# Altium footprint library Leadless.PcbLib: 78 footprints (part 1 of 5)
Each footprint in its own frame and in the unit in brackets; x right, y up, seen from the top. Pads: shape width x height; smd on the part's side, far side on the other; paste and mask are expansions set on the pad; w line width, h text height; cw(c..) or ccw(c..) is an arc to the next point about the centre after c.
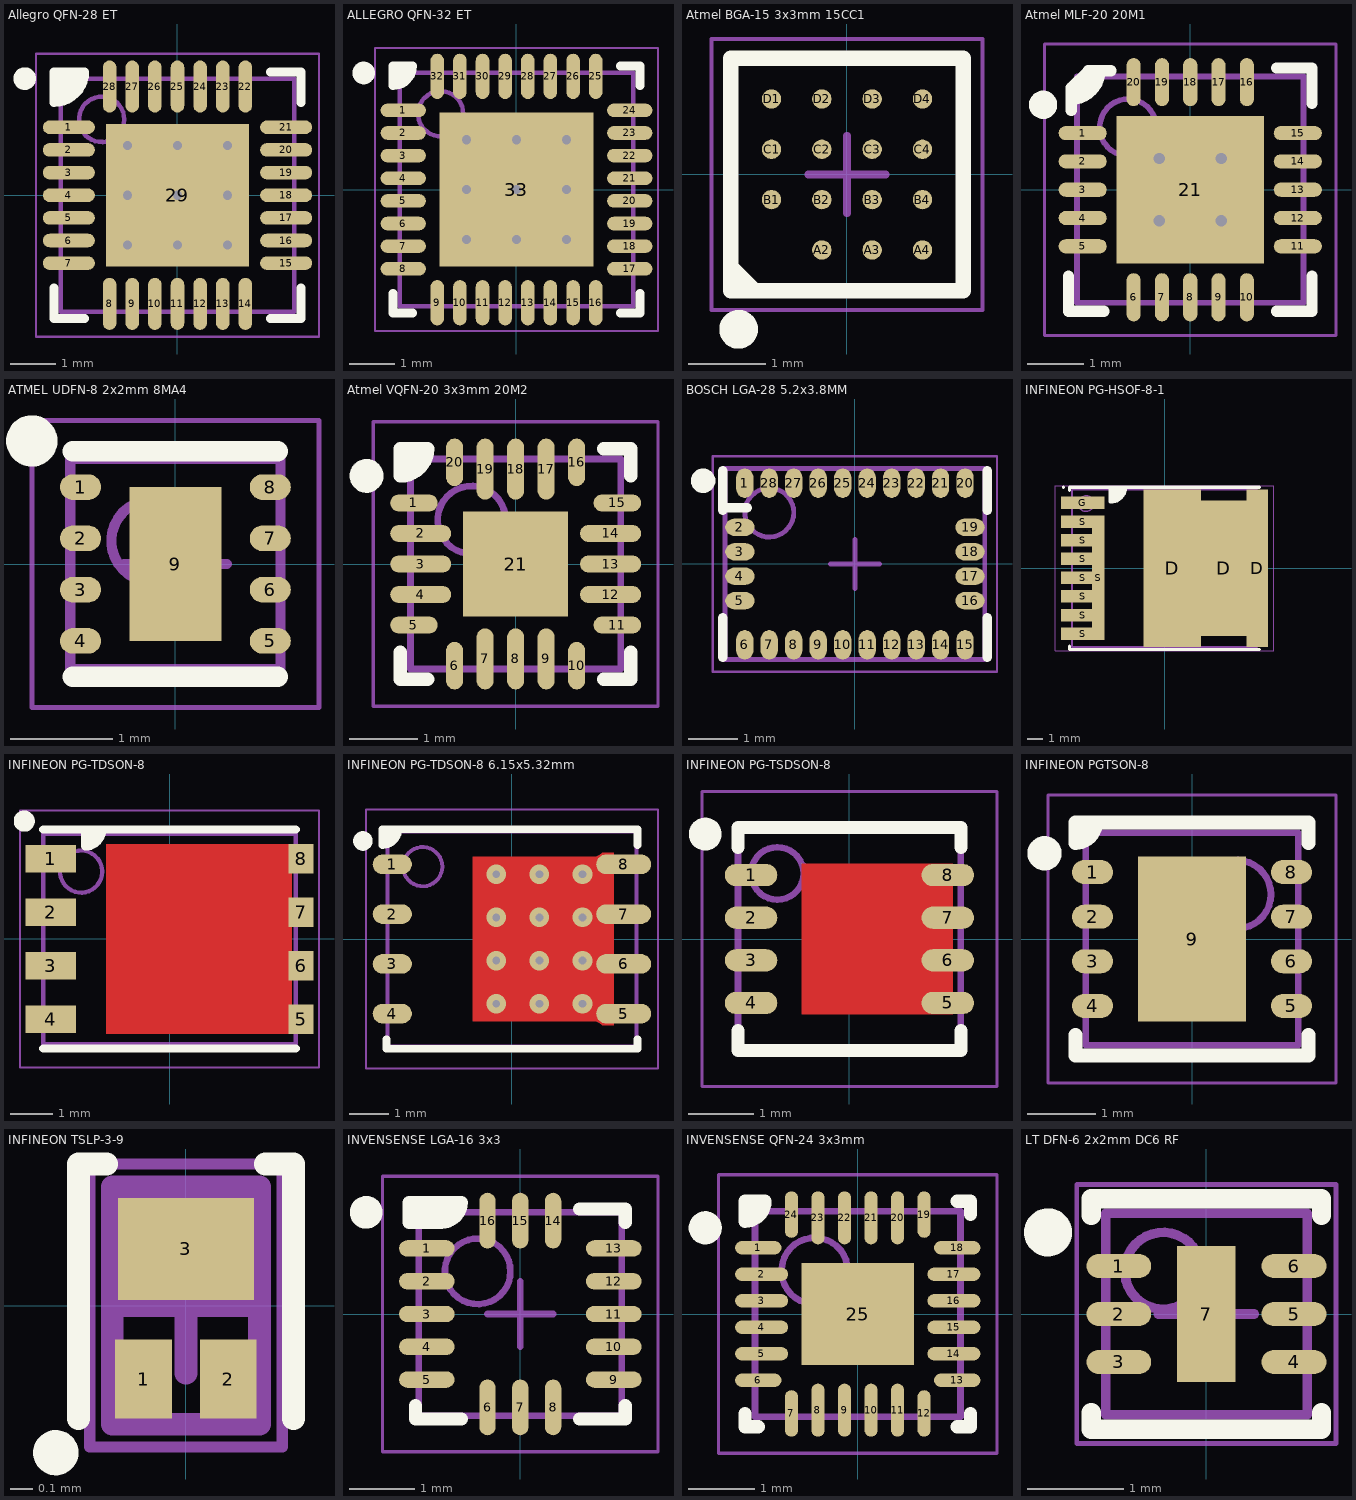
[diagram p0: the footprints below, top view; thin cyan lines are the x and y axes]

## Allegro QFN-28 ET [mm] "QFN, 28-Leads, Body 5.00x5.00mm, Pitch 0.50mm, Thermal Pad 3.15x3.15mm, IPC Medium Density"
height 1
pads (29):
  oval 1.15x0.3 smd: 1(-2.4,1.5) 2(-2.4,1) 3(-2.4,0.5) 4(-2.4,0) 5(-2.4,-0.5) 6(-2.4,-1) 7(-2.4,-1.5) 15(2.4,-1.5) 16(2.4,-1) 17(2.4,-0.5) 18(2.4,0) 19(2.4,0.5) 20(2.4,1) 21(2.4,1.5)
  oval 0.3x1.15 smd: 8(-1.5,-2.4) 9(-1,-2.4) 10(-0.5,-2.4) 11(0,-2.4) 12(0.5,-2.4) 13(1,-2.4) 14(1.5,-2.4) 22(1.5,2.4) 23(1,2.4) 24(0.5,2.4) 25(0,2.4) 26(-0.5,2.4) 27(-1,2.4) 28(-1.5,2.4)
  rect 3.15x3.15 smd: 29(0,0)
via -1.1,1.1 diameter 0.5 hole 0.2
via 0,1.1 diameter 0.5 hole 0.2
via 1.1,1.1 diameter 0.5 hole 0.2
via -1.1,0 diameter 0.5 hole 0.2
via 0,0 diameter 0.5 hole 0.2
via 1.1,0 diameter 0.5 hole 0.2
via -1.1,-1.1 diameter 0.5 hole 0.2
via 0,-1.1 diameter 0.5 hole 0.2
via 1.1,-1.1 diameter 0.5 hole 0.2
Top Overlay:
  circle w0.25: c-3.375,2.575 r0.125
  region: -2.725,2.725 -2.05,2.725 -2.05,2.659 -2.076,2.528 -2.127,2.405 -2.201,2.295 -2.295,2.201 -2.405,2.127 -2.528,2.076 -2.659,2.05 -2.725,2.05
  lines w0.2: -2.725,-2.05 -2.725,-2.725 -2.05,-2.725 ; 2.05,-2.725 2.725,-2.725 2.725,-2.05 ; 2.05,2.725 2.725,2.725 2.725,2.05 ; -2.725,2.05 ccw(c-2.725,2.725) -2.05,2.725 -2.725,2.725 -2.725,2.05
Mechanical 13:
  circle w0.1: c-1.675,1.675 r0.5
  lines w0.1: -2.575,-2.575 -2.575,2.575 2.575,2.575 2.575,-2.575 -2.575,-2.575
Mechanical 15:
  lines w0.05: -3.125,-3.125 -3.125,3.125 3.125,3.125 3.125,-3.125 -3.125,-3.125
  lines w0.1: -0.5,0 0.5,0 ; 0,-0.5 0,0.5
3D body: height 1, standoff 0.01, extent -2.575,-2.575 2.575,2.575

## ALLEGRO QFN-32 ET [mm] "QFN, 32-Leads, Body 5.00x5.00mm, Pitch 0.50mm, Thermal Pad 3.40x3.40mm, IPC Medium Density"
height 1
pads (33):
  oval 1x0.3 smd: 1(-2.5,1.75) 2(-2.5,1.25) 3(-2.5,0.75) 4(-2.5,0.25) 5(-2.5,-0.25) 6(-2.5,-0.75) 7(-2.5,-1.25) 8(-2.5,-1.75) 17(2.5,-1.75) 18(2.5,-1.25) 19(2.5,-0.75) 20(2.5,-0.25) 21(2.5,0.25) 22(2.5,0.75) 23(2.5,1.25) 24(2.5,1.75)
  oval 0.3x1 smd: 9(-1.75,-2.5) 10(-1.25,-2.5) 11(-0.75,-2.5) 12(-0.25,-2.5) 13(0.25,-2.5) 14(0.75,-2.5) 15(1.25,-2.5) 16(1.75,-2.5) 25(1.75,2.5) 26(1.25,2.5) 27(0.75,2.5) 28(0.25,2.5) 29(-0.25,2.5) 30(-0.75,2.5) 31(-1.25,2.5) 32(-1.75,2.5)
  rect 3.4x3.4 smd: 33(0,0)
via -1.1,1.1 diameter 0.5 hole 0.2
via 0,1.1 diameter 0.5 hole 0.2
via 1.1,1.1 diameter 0.5 hole 0.2
via -1.1,0 diameter 0.5 hole 0.2
via 0,0 diameter 0.5 hole 0.2
via 1.1,0 diameter 0.5 hole 0.2
via -1.1,-1.1 diameter 0.5 hole 0.2
via 0,-1.1 diameter 0.5 hole 0.2
via 1.1,-1.1 diameter 0.5 hole 0.2
Top Overlay:
  circle w0.25: c-3.375,2.575 r0.125
  region: -2.725,2.725 -2.3,2.725 -2.3,2.64 -2.365,2.484 -2.484,2.365 -2.64,2.3 -2.725,2.3
  lines w0.2: -2.725,-2.3 -2.725,-2.725 -2.3,-2.725 ; 2.3,-2.725 2.725,-2.725 2.725,-2.3 ; 2.3,2.725 2.725,2.725 2.725,2.3 ; -2.725,2.3 ccw(c-2.725,2.725) -2.3,2.725 -2.725,2.725 -2.725,2.3
Mechanical 13:
  circle w0.1: c-1.675,1.675 r0.5
  lines w0.1: -2.575,-2.575 -2.575,2.575 2.575,2.575 2.575,-2.575 -2.575,-2.575
Mechanical 15:
  lines w0.05: -3.125,-3.125 -3.125,3.125 3.125,3.125 3.125,-3.125 -3.125,-3.125
  lines w0.1: -0.5,0 0.5,0 ; 0,-0.5 0,0.5
3D body: height 1, standoff 0.01, extent -2.575,-2.575 2.575,2.575

## Atmel BGA-15 3x3mm 15CC1 [mm] "BGA, 15-Leads, Body 3.00x3.00mmx0.60mm, Pitch 0.65mm"
height 0.6
pads (15):
  round 0.25 smd: A2(-0.325,-0.975) A3(0.325,-0.975) A4(0.975,-0.975) B1(-0.975,-0.325) B2(-0.325,-0.325) B3(0.325,-0.325) B4(0.975,-0.325) C1(-0.975,0.325) C2(-0.325,0.325) C3(0.325,0.325) C4(0.975,0.325) D1(-0.975,0.975) D2(-0.325,0.975) D3(0.325,0.975) D4(0.975,0.975)
Top Overlay:
  circle w0.25: c-1.4,-2 r0.125
  region: -1.5,-1.192 -1.192,-1.5 -1.5,-1.5
  lines w0.2: -1.5,-1.192 -1.192,-1.5 ; -1.5,-1.5 -1.5,1.5 1.5,1.5 1.5,-1.5 -1.5,-1.5
Mechanical 13:
  lines w0.1: -1.5,-1.5 -1.5,1.5 1.5,1.5 1.5,-1.5 -1.5,-1.5
Mechanical 15:
  lines w0.05: -1.75,-1.75 -1.75,1.75 1.75,1.75 1.75,-1.75 -1.75,-1.75
  lines w0.1: -0.5,0 0.5,0 ; 0,-0.5 0,0.5
3D body: height 0.6, standoff 0.12, extent -1.5,-1.5 1.5,1.5

## Atmel MLF-20 20M1 [mm] "QFN, 20-Leads, Body 4.00x4.00mm, Pitch 0.50mm, Thermal Pad 2.60x2.60mm, IPC Medium Density"
height 0.8
pads (21):
  oval 0.85x0.25 smd: 1(-1.9,1) 2(-1.9,0.5) 3(-1.9,0) 4(-1.9,-0.5) 5(-1.9,-1) 11(1.9,-1) 12(1.9,-0.5) 13(1.9,0) 14(1.9,0.5) 15(1.9,1)
  oval 0.25x0.85 smd: 6(-1,-1.9) 7(-0.5,-1.9) 8(0,-1.9) 9(0.5,-1.9) 10(1,-1.9) 16(1,1.9) 17(0.5,1.9) 18(0,1.9) 19(-0.5,1.9) 20(-1,1.9)
  rect 2.6x2.6 smd: 21(0,0)
via 0.55,-0.55 diameter 0.5 hole 0.2
via -0.55,-0.55 diameter 0.5 hole 0.2
via 0.55,0.55 diameter 0.5 hole 0.2
via -0.55,0.55 diameter 0.5 hole 0.2
Top Overlay:
  circle w0.25: c-2.6,1.5 r0.125
  region: -1.9,2.1 -1.6,2.1 -1.6,2.001 -1.676,1.817 -1.817,1.676 -2.001,1.6 -2.1,1.6 -2.2,1.6 -2.2,1.8
  lines w0.2: -2.15,-1.525 -2.15,-2.15 -1.525,-2.15 ; -2.1,1.4 -2.1,1.8 -1.8,2.1 -1.4,2.1 ; -2.1,1.6 ccw(c-2.1,2.1) -1.6,2.1 ; 1.525,-2.15 2.15,-2.15 2.15,-1.525 ; 1.525,2.15 2.15,2.15 2.15,1.525
Mechanical 13:
  circle w0.1: c-1.1,1.1 r0.5
  lines w0.1: -2,-2 2,-2 2,2 -2,2 -2,-2
Mechanical 15:
  lines w0.05: -2.575,-2.575 2.575,-2.575 2.575,2.575 -2.575,2.575 -2.575,-2.575
  lines w0.1: -0.5,0 0.5,0 ; 0,-0.5 0,0.5
3D body: height 0.8, standoff 0.01, extent -2,-2 2,2

## ATMEL UDFN-8 2x2mm 8MA4 [mm] "UDFN, 8-Leads, Body 2.00x2.00mm, Pitch 0.50mm, Thermal Pad 0.90x1.50mm, IPC Medium Density"
height 0.6
pads (9):
  oval 0.4x0.25 smd: 1(-0.925,0.75) 2(-0.925,0.25) 3(-0.925,-0.25) 4(-0.925,-0.75) 5(0.925,-0.75) 6(0.925,-0.25) 7(0.925,0.25) 8(0.925,0.75)
  rect 0.9x1.5 smd: 9(0,0)
Top Overlay:
  circle w0.25: c-1.4,1.2 r0.125
  lines w0.2: -1,-1.1 1,-1.1 ; -1,1.1 1,1.1
Mechanical 13:
  circle w0.1: c-0.225,0.225 r0.4
  lines w0.1: -1.025,-1.025 1.025,-1.025 1.025,1.025 -1.025,1.025 -1.025,-1.025
Mechanical 15:
  lines w0.05: -1.4,-1.4 1.4,-1.4 1.4,1.4 -1.4,1.4 -1.4,-1.4
  lines w0.1: -0.5,0 0.5,0 ; 0,-0.5 0,0.5
3D body: height 0.6, standoff 0.01, extent -1.025,-1.025 1.025,1.025

## Atmel VQFN-20 3x3mm 20M2 [mm] "VQFN, 20-Leads, Body 3.00x3.00mm, Pitch 0.45mm, Thermal Pad 1.55x1.55mm, IPC Medium Density"
height 0.85
pads (21):
  oval 0.7x0.25 smd: 1(-1.5,0.9) 5(-1.5,-0.9) 11(1.5,-0.9) 15(1.5,0.9)
  oval 0.9x0.25 smd: 2(-1.4,0.45) 3(-1.4,0) 4(-1.4,-0.45) 12(1.4,-0.45) 13(1.4,0) 14(1.4,0.45)
  oval 0.25x0.7 smd: 6(-0.9,-1.5) 10(0.9,-1.5) 16(0.9,1.5) 20(-0.9,1.5)
  oval 0.25x0.9 smd: 7(-0.45,-1.4) 8(0,-1.4) 9(0.45,-1.4) 17(0.45,1.4) 18(0,1.4) 19(-0.45,1.4)
  rect 1.55x1.55 smd: 21(0,0)
Top Overlay:
  circle w0.25: c-2.2,1.3 r0.125
  region: -1.7,1.7 -1.3,1.7 -1.3,1.5 -1.5,1.3 -1.7,1.3
  lines w0.2: -1.7,-1.3 -1.7,-1.7 -1.3,-1.7 ; 1.3,-1.7 1.7,-1.7 1.7,-1.3 ; 1.3,1.7 1.7,1.7 1.7,1.3 ; -1.7,1.3 ccw(c-1.7,1.7) -1.3,1.7 -1.7,1.7 -1.7,1.3
Mechanical 13:
  circle w0.1: c-0.65,0.65 r0.5
  lines w0.1: -1.55,-1.55 -1.55,1.55 1.55,1.55 1.55,-1.55 -1.55,-1.55
Mechanical 15:
  lines w0.05: -2.1,-2.1 -2.1,2.1 2.1,2.1 2.1,-2.1 -2.1,-2.1
  lines w0.1: -0.5,0 0.5,0 ; 0,-0.5 0,0.5
3D body: height 0.85, standoff 0.01, extent -1.55,-1.55 1.55,1.55

## BOSCH LGA-28 5.2x3.8MM [mm] "LGA, 28-Leads, Body 5.20x3.80mm, Pitch 0.50mm, IPC Medium Density"
height 1.18
pads (28):
  oval 0.35x0.6 smd: 1(-2.25,1.65) 6(-2.25,-1.65) 7(-1.75,-1.65) 8(-1.25,-1.65) 9(-0.75,-1.65) 10(-0.25,-1.65) 11(0.25,-1.65) 12(0.75,-1.65) 13(1.25,-1.65) 14(1.75,-1.65) 15(2.25,-1.65) 20(2.25,1.65) 21(1.75,1.65) 22(1.25,1.65) 23(0.75,1.65) 24(0.25,1.65) 25(-0.25,1.65) 26(-0.75,1.65) 27(-1.25,1.65) 28(-1.75,1.65)
  oval 0.6x0.35 smd: 2(-2.35,0.75) 3(-2.35,0.25) 4(-2.35,-0.25) 5(-2.35,-0.75) 16(2.35,-0.75) 17(2.35,-0.25) 18(2.35,0.25) 19(2.35,0.75)
Top Overlay:
  circle w0.25: c-3.1,1.7 r0.125
  lines w0.2: -2.7,-1.9 -2.7,-1.1 ; -2.7,1.1 -2.7,1.9 ; -2.7,1.15 -2.2,1.15 ; 2.7,-1.9 2.7,-1.1 ; 2.7,1.1 2.7,1.9
Mechanical 13:
  circle w0.1: c-1.75,1.05 r0.5
  lines w0.1: -2.65,-1.95 2.65,-1.95 2.65,1.95 -2.65,1.95 -2.65,-1.95
Mechanical 15:
  lines w0.05: -2.9,-2.2 2.9,-2.2 2.9,2.2 -2.9,2.2 -2.9,-2.2
  lines w0.1: -0.5,0 0.5,0 ; 0,-0.5 0,0.5
3D body: height 1.18, standoff 0.13, extent -2.65,-1.95 2.65,1.95

## INFINEON PG-HSOF-8-1 [mm] "SON, 16-Leads, Body 9.90x11.67mm, Pitch 1.20mm, TIPC Medium Density"
height 2.4
pads (12):
  rect 3.7x10.1 smd: D(0.5,0)
  rect 2.9x8.7 smd: D(3.8,0)
  rect 1.4x10.1 smd: D(5.95,0)
  rect 2.8x0.8 smd: G(-5.25,4.2) S(-5.25,-4.2) S(-5.25,-3) S(-5.25,-1.8) S(-5.25,-0.6) S(-5.25,0.6) S(-5.25,1.8) S(-5.25,3)
  rect 0.8x8 smd mask-10: S(-4.25,-0.6)
Top Overlay:
  circle w0.1: c-6.49,5.2 r0.05
  region: -3.5,5.2 -3.5,4.3 -3.45,4.25 -3,4.25 -2.5,4.75 -2.5,5.2
  lines w0.2: -6.09,-5 -6.09,-5.2 6.09,-5.2 ; -6.09,5 -6.09,5.2 6.09,5.2 ; -3.5,5.2 -3.5,4.25 -3.45,4.25 ccw(c-3.45,5.2) -2.5,5.2
Mechanical 13:
  circle w0.1: c-5.04,4.15 r0.5
  lines w0.1: -5.94,-5.05 -5.94,5.05 5.94,5.05 5.94,-5.05 -5.94,-5.05
Mechanical 15:
  lines w0.05: -7,-5.3 -7,5.3 7,5.3 7,-5.3 -7,-5.3
  lines w0.1: -0.5,0 0.5,0 ; 0,-0.5 0,0.5
3D body "Infineon PG-HSOF-8-1.STEP": height 2.3, standoff 0, extent -5.84,-4.95 5.84,4.95

## INFINEON PG-TDSON-8 [mm] "TDSON, 8-Leads, Body 6x5mm, Pitch 1.27mm, Thermal Pad 1.65x2.38mm, IPC Medium Density"
height 1
pads (8):
  rect 1.2x0.65 smd: 1(-2.825,1.905) 2(-2.825,0.635) 3(-2.825,-0.635) 4(-2.825,-1.905)
  rect 0.6x0.7 smd: 5(3.125,-1.905) 6(3.125,-0.635) 7(3.125,0.635) 8(3.125,1.905)
Top Layer:
  region: -1.5,-2.25 2.9,-2.25 2.9,2.25 -1.5,2.25
Top Overlay:
  circle w0.25: c-3.45,2.8 r0.125
  region: -2,2.6 -1.6,2.6 -1.6,2.52 -1.661,2.373 -1.773,2.261 -1.92,2.2 -2,2.2
  lines w0.2: -3,-2.6 3,-2.6 ; -3,2.6 3,2.6 ; -2,2.6 -2,2.2 ; -1.6,2.6 cw(c-2,2.6) -2,2.2 ; -2,2.2 -2,2.2
Top Paste:
  rectangle: -1.247,1.196 -0.1,1.941
  rectangle: -1.247,-0.895 -0.1,-0.15
  rectangle: -1.247,-1.941 -0.1,-1.196
  rectangle: -1.247,0.15 -0.1,0.895
  region: 1.247,0.895 0.1,0.895 0.1,0.15 1.247,0.15
  region: 1.247,-1.196 0.1,-1.196 0.1,-1.941 1.247,-1.941
  region: 1.247,-0.15 0.1,-0.15 0.1,-0.895 1.247,-0.895
  region: 1.247,1.941 0.1,1.941 0.1,1.196 1.247,1.196
  region: 2.594,1.941 1.447,1.941 1.447,1.196 2.594,1.196
  region: 2.594,-0.15 1.447,-0.15 1.447,-0.895 2.594,-0.895
  region: 2.594,-1.196 1.447,-1.196 1.447,-1.941 2.594,-1.941
  region: 2.594,0.895 1.447,0.895 1.447,0.15 2.594,0.15
Mechanical 13:
  circle w0.1: c-2.1,1.6 r0.5
  lines w0.1: -3,-2.5 3,-2.5 3,2.5 -3,2.5 -3,-2.5
Mechanical 15:
  lines w0.05: -3.55,-3.05 3.55,-3.05 3.55,3.05 -3.55,3.05 -3.55,-3.05
  lines w0.1: -0.5,0 0.5,0 ; 0,-0.5 0,0.5
3D body "PG-TDSON-8.STEP": height 1, standoff 0, extent -3.075,-2.575 3.075,2.575

## INFINEON PG-TDSON-8 6.15x5.32mm [mm] "TDSON, 8-Leads, Body 6.15x5.32mm, Pitch 1.27mm, Thermal Pad 3.60x4.05mm, IPC Medium Density"
height 1.1
pads (8):
  oval 1x0.5 smd: 1(-3.05,1.905) 2(-3.05,0.635) 3(-3.05,-0.635) 4(-3.05,-1.905)
  oval 1.4x0.5 smd: 5(2.85,-1.905) 6(2.85,-0.635) 7(2.85,0.635) 8(2.85,1.905)
via -0.4,1.65 diameter 0.5 hole 0.2
via 0.7,1.65 diameter 0.5 hole 0.2
via 1.8,1.65 diameter 0.5 hole 0.2
via -0.4,0.55 diameter 0.5 hole 0.2
via 0.7,0.55 diameter 0.5 hole 0.2
via 1.8,0.55 diameter 0.5 hole 0.2
via -0.4,-0.55 diameter 0.5 hole 0.2
via 0.7,-0.55 diameter 0.5 hole 0.2
via 1.8,-0.55 diameter 0.5 hole 0.2
via -0.4,-1.65 diameter 0.5 hole 0.2
via 0.7,-1.65 diameter 0.5 hole 0.2
via 1.8,-1.65 diameter 0.5 hole 0.2
Top Layer:
  region: -1,2.1 -1,-2.1 2.059,-2.1 2.092,-2.102 2.158,-2.115 2.22,-2.14 2.275,-2.177 2.3,-2.2 2.6,-2.2 2.6,2.2 2.3,2.2 2.275,2.177 2.22,2.14 2.158,2.115 2.092,2.102 2.059,2.1
Top Overlay:
  circle w0.25: c-3.8,2.5 r0.125
  region: -3.3,2.8 -2.9,2.8 -2.9,2.7 -3.2,2.4 -3.3,2.4
  lines w0.2: -3.2,-2.555 -3.2,-2.8 -0.11,-2.8 3.2,-2.8 3.2,-2.555 ; -2.9,2.8 cw(c-3.3,2.8) -3.3,2.4 ; 3.2,2.4 3.2,2.8 -0.11,2.8 -3.3,2.8 -3.3,2.4 ; -3.3,2.4 -3.3,2.4
Mechanical 13:
  circle w0.1: c-2.275,1.845 r0.5
  lines w0.1: -3.175,-2.745 -3.175,2.745 3.175,2.745 3.175,-2.745 -3.175,-2.745
Mechanical 15:
  lines w0.05: -3.725,-3.3 -3.725,3.3 3.725,3.3 3.725,-3.3 -3.725,-3.3
  lines w0.1: -0.5,0 0.5,0 ; 0,-0.5 0,0.5
3D body: height 1.1, standoff 0.01, extent -3.175,-2.745 3.175,2.745

## INFINEON PG-TSDSON-8 [mm] "PG-TSDSOFN, 8-Leads, Body 3.30x3.30mm, Pitch 0.65mm, Thermal Pad 1.70x1.70mm, IPC Medium Density"
height 1.1
pads (8):
  oval 0.8x0.34 smd: 1(-1.5,0.975) 2(-1.5,0.325) 3(-1.5,-0.325) 4(-1.5,-0.975) 5(1.5,-0.975) 6(1.5,-0.325) 7(1.5,0.325) 8(1.5,0.975)
Top Layer:
  region: -0.725,1.15 1.575,1.15 1.575,-1.15 -0.725,-1.15
Top Overlay:
  circle w0.25: c-2.2,1.6 r0.125
  lines w0.2: -1.7,-1.4 -1.7,-1.7 1.7,-1.7 1.7,-1.4 ; -1.7,1.4 -1.7,1.7 1.7,1.7 1.7,1.4
Mechanical 13:
  lines w0.1: -1.7,-1.7 1.7,-1.7 1.7,1.7 -1.7,1.7 -1.7,-1.7 ; -0.7,1 ccw(c-1.1,1) -0.7,1
Mechanical 15:
  lines w0.05: -2.25,-2.25 2.25,-2.25 2.25,2.25 -2.25,2.25 -2.25,-2.25
  lines w0.1: -0.5,0 0.5,0 ; 0,-0.5 0,0.5
3D body: height 1.1, standoff 0.01, extent -1.7,-1.7 1.7,1.7

## INFINEON PGTSON-8 [mm] "DFN, 8-Leads, Body 3.00x3.00mm, Pitch 0.65mm, Thermal Pad 2.40x1.58mm, IPC Medium Density"
height 1
pads (9):
  oval 0.6x0.35 smd: 1(-1.45,0.975) 2(-1.45,0.325) 3(-1.45,-0.325) 4(-1.45,-0.975) 5(1.45,-0.975) 6(1.45,-0.325) 7(1.45,0.325) 8(1.45,0.975)
  rect 1.58x2.4 smd: 9(0,0)
Top Overlay:
  circle w0.25: c-2.15,1.25 r0.125
  region: -1.7,1.7 -1.4,1.7 -1.7,1.4
  lines w0.2: -1.7,-1.4 -1.7,-1.7 1.7,-1.7 1.7,-1.4 ; -1.4,1.7 cw(c-1.7,1.7) -1.7,1.4 -1.7,1.7 1.7,1.7 1.7,1.4
Mechanical 13:
  circle w0.1: c0.65,0.65 r0.5
  lines w0.1: -1.55,-1.55 1.55,-1.55 1.55,1.55 -1.55,1.55 -1.55,-1.55
Mechanical 15:
  lines w0.05: -2.1,-2.1 2.1,-2.1 2.1,2.1 -2.1,2.1 -2.1,-2.1
  lines w0.1: -0.5,0 0.5,0 ; 0,-0.5 0,0.5
3D body: height 1, standoff 0.01, extent -1.55,-1.55 1.55,1.55

## INFINEON TSLP-3-9 [mm] "DFN, 3-Leads, Body 0.60x1.00mm, Pitch 0.57mm, IPC High Density"
height 0.31
pads (3):
  rect 0.25x0.35 smd: 1(-0.188,-0.325) 2(0.187,-0.325)
  rect 0.6x0.45 smd: 3(0,0.25)
Top Overlay:
  circle w0.1: c-0.575,-0.65 r0.05
  lines w0.1: -0.475,-0.5 -0.475,0.625 -0.35,0.625 ; 0.35,0.625 0.475,0.625 0.475,-0.5
Mechanical 13:
  lines w0.1: -0.325,-0.525 -0.325,0.525 0.325,0.525 0.325,-0.525 -0.325,-0.525
Mechanical 15:
  lines w0.05: -0.425,-0.625 -0.425,0.625 0.425,0.625 0.425,-0.625 -0.425,-0.625
  lines w0.1: -0.3,0 0.3,0 ; 0,-0.3 0,0.3
3D body: height 0.31, standoff 0, extent -0.325,-0.525 0.325,0.525

## INVENSENSE LGA-16 3x3 [mm] "LGA, 16-Leads, Body 3.00x3.00mm, Pitch 0.50mm, IPC Medium Density"
height 0.8
pads (16):
  oval 0.85x0.25 smd: 1(-1.425,1) 2(-1.425,0.5) 3(-1.425,0) 4(-1.425,-0.5) 5(-1.425,-1) 9(1.425,-1) 10(1.425,-0.5) 11(1.425,0) 12(1.425,0.5) 13(1.425,1)
  oval 0.25x0.85 smd: 6(-0.5,-1.425) 7(0,-1.425) 8(0.5,-1.425) 14(0.5,1.425) 15(0,1.425) 16(-0.5,1.425)
Top Overlay:
  circle w0.25: c-2.35,1.55 r0.125
  region: -0.9,1.7 -1.2,1.4 -1.7,1.4 -1.7,1.7
  lines w0.2: -1.6,-1.4 -1.6,-1.6 -0.9,-1.6 ; 0.9,-1.6 1.6,-1.6 1.6,-1.4 ; 0.9,1.6 1.6,1.6 1.6,1.4 ; -0.9,1.7 cw(c-1.2,1.7) -1.2,1.4 -1.7,1.4 -1.7,1.7 -0.9,1.7 ; -0.9,1.7 -0.9,1.7
Mechanical 13:
  circle w0.1: c-0.65,0.65 r0.5
  lines w0.1: -1.55,-1.55 1.55,-1.55 1.55,1.55 -1.55,1.55 -1.55,-1.55
Mechanical 15:
  lines w0.05: -2.1,-2.1 2.1,-2.1 2.1,2.1 -2.1,2.1 -2.1,-2.1
  lines w0.1: -0.5,0 0.5,0 ; 0,-0.5 0,0.5
3D body "INFINEON LGA-16 3x3.step": height 0.8, standoff 0, extent -1.551,-1.551 1.551,1.551

## INVENSENSE QFN-24 3x3mm [mm] "QFN, 24-Leads, Body 3.00x3.00mm, Pitch 0.40mm, Thermal Pad 1.70x1.54mm, IPC Medium Density"
height 1.05
pads (25):
  oval 0.7x0.2 smd: 1(-1.5,1) 6(-1.5,-1) 13(1.5,-1) 18(1.5,1)
  oval 0.8x0.2 smd: 2(-1.45,0.6) 3(-1.45,0.2) 4(-1.45,-0.2) 5(-1.45,-0.6) 14(1.45,-0.6) 15(1.45,-0.2) 16(1.45,0.2) 17(1.45,0.6)
  oval 0.2x0.7 smd: 7(-1,-1.5) 12(1,-1.5) 19(1,1.5) 24(-1,1.5)
  oval 0.2x0.8 smd: 8(-0.6,-1.45) 9(-0.2,-1.45) 10(0.2,-1.45) 11(0.6,-1.45) 20(0.6,1.45) 21(0.2,1.45) 22(-0.2,1.45) 23(-0.6,1.45)
  rect 1.7x1.54 smd: 25(0,0)
Top Overlay:
  circle w0.25: c-2.3,1.3 r0.125
  region: -1.7,1.7 -1.4,1.7 -1.7,1.4
  lines w0.2: -1.7,-1.5 -1.7,-1.7 -1.5,-1.7 ; 1.5,-1.7 1.7,-1.7 1.7,-1.5 ; 1.5,1.7 1.7,1.7 1.7,1.5 ; -1.7,1.4 ccw(c-1.7,1.7) -1.4,1.7 -1.7,1.7 -1.7,1.4
Mechanical 13:
  circle w0.1: c-0.65,0.65 r0.5
  lines w0.1: -1.55,-1.55 -1.55,1.55 1.55,1.55 1.55,-1.55 -1.55,-1.55
Mechanical 15:
  lines w0.05: -2.1,-2.1 -2.1,2.1 2.1,2.1 2.1,-2.1 -2.1,-2.1
  lines w0.1: -0.5,0 0.5,0 ; 0,-0.5 0,0.5
3D body "INVENSENSE QFN-24 3x3mm.step": height 1.05, standoff 0, extent -1.551,-1.551 1.551,1.551

## LT DFN-6 2x2mm DC6 RF [mm] "DFN, 6-Leads, Body 2.00x2.00mm, Pitch 0.50mm, Thermal Pad 0.61x1.42mm, IPC High Density"
height 0.75
pads (7):
  oval 0.675x0.25 smd: 1(-0.913,0.5) 2(-0.913,0) 3(-0.913,-0.5) 4(0.913,-0.5) 5(0.913,0) 6(0.913,0.5)
  rect 0.61x1.42 smd: 7(0,0)
Top Overlay:
  circle w0.25: c-1.65,0.85 r0.125
  lines w0.2: -1.2,-1.025 -1.2,-1.2 1.2,-1.2 1.2,-1.025 ; -1.2,1.025 -1.2,1.2 1.2,1.2 1.2,1.025
Mechanical 13:
  circle w0.1: c-0.45,0.45 r0.4
  lines w0.1: -1.05,-1.05 1.05,-1.05 1.05,1.05 -1.05,1.05 -1.05,-1.05
Mechanical 15:
  lines w0.05: -1.35,-1.35 1.35,-1.35 1.35,1.35 -1.35,1.35 -1.35,-1.35
  lines w0.1: -0.5,0 0.5,0 ; 0,-0.5 0,0.5
3D body: height 0.75, standoff 0.01, extent -1.05,-1.05 1.05,1.05